# Altium schematic symbol library TC164-FR-0710KL.SchLib: 1 symbol
Pins are listed as number, name and electrical type; pins without a type are passive.

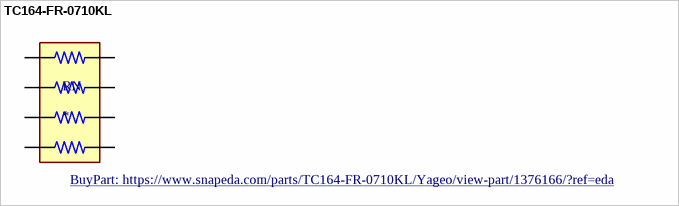
[diagram p0: symbol TC164-FR-0710KL]

## TC164-FR-0710KL
designator RN
10k Ohm Â±1% 62.5mW Power Per Element Isolated Resistor Network/Array Â±200ppm/Â°C 1206 (3216 Metric), Concave, Long Side Terminals; MF: Yageo; MP: TC164-FR-0710KL; Mouser-Purchase-URL: https://snapeda.com/shop?store=Mouser&id=1376166; SnapEDA_Link: https://www.snapeda.com/parts/TC164-FR-0710KL/Yageo/view-part/1376166/?ref=snap; Package: 1206 Yageo; DigiKey-Purchase-URL: https://snapeda.com/shop?store=DigiKey&id=1376166; Price: None; Availability: Warning; Value: *; BuyPart: https://www.snapeda.com/parts/TC164-FR-0710KL/Yageo/view-part/1376166/?ref=eda
footprint RESCAV80P320X160X70-8N
pins: 1, 2, 3, 4, 5, 6, 7, 8